# Altium footprint library Seeeduino-XIAO-footprint-eagle.PCBLIB: 1 footprints
Each footprint in its own frame and in the unit in brackets; x right, y up, seen from the top. Pads: shape width x height; smd on the part's side, far side on the other; paste and mask are expansions set on the pad; w line width, h text height; cw(c..) or ccw(c..) is an arc to the next point about the centre after c.
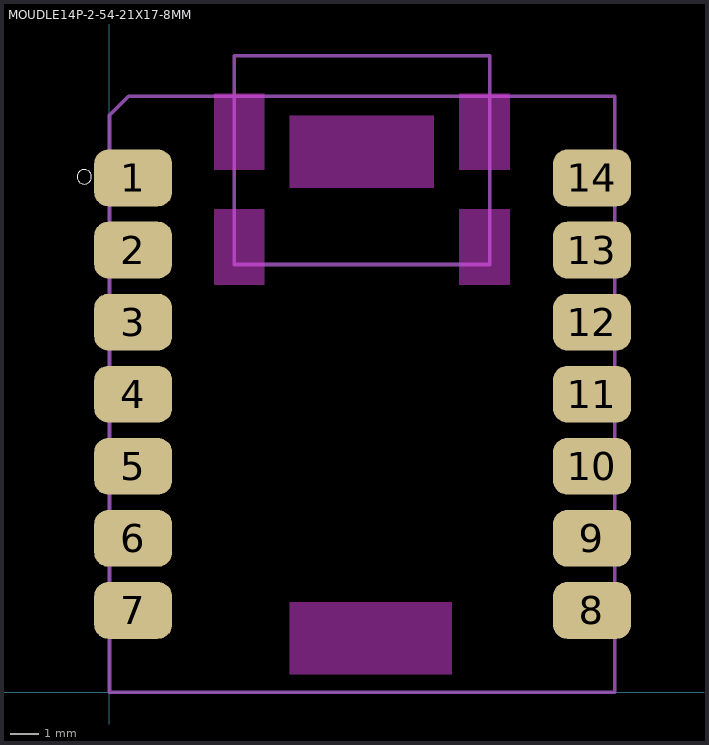
[diagram p0: the footprint, top view; thin cyan lines are the x and y axes]

## MOUDLE14P-2-54-21X17-8MM [mm]
pads (14):
  rrect50% 2.75x2 smd: 1(0.835,18.12) 2(0.835,15.58) 3(0.835,13.04) 4(0.835,10.5) 5(0.835,7.96) 6(0.835,5.42) 7(0.835,2.88) 8(17,2.88) 9(17,5.42) 10(17,7.96) 11(17,10.5) 12(17,13.04) 13(17,15.58) 14(17,18.12)
Top keep-out:
  region: 6.35,17.78 6.35,20.32 11.43,20.32 11.43,17.78
  region: 6.35,0.635 6.35,3.175 12.065,3.175 12.065,0.635
  region: 3.683,18.415 3.683,21.082 5.461,21.082 5.461,18.415
  region: 3.683,14.351 3.683,17.018 5.461,17.018 5.461,14.351
  region: 12.319,14.351 12.319,17.018 14.097,17.018 14.097,14.351
  region: 12.319,18.415 12.319,21.082 14.097,21.082 14.097,18.415
Top Overlay:
  circle w0: c-0.889,18.161 r0.254
tPlace:
  lines w0.127: 4.396,22.425 4.396,15.072 13.395,15.072 13.395,22.424 4.4,22.424 ; 0,0 17.8,0 17.8,21 0.672,21 0,20.328 0,0
3D body "Seeeduino XIAO SAMD21 v4.step": height 4.5, standoff -0.01, extent 0.05,-0.2 17.95,22.4